# Altium integrated library PCB_Project_para_Eber.IntLib: 4 symbols
Pins are listed as number, name and electrical type; pins without a type are passive.

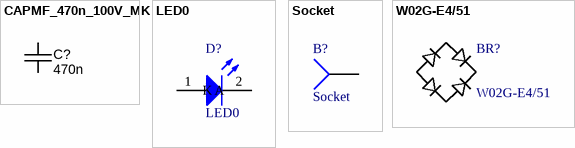
[diagram p0: symbols CAPMF_470n_100V_MK to W02G-E4/51]

## CAPMF_470n_100V_MK
designator C?, comment 470n
Capacitor THD MK Film 470nF 10% 100V; Manufacturer 1: Panasonic - ECG; Manufacturer Part Number 1: ECQ-E1474KF; Material: Metallized Polyester; SCDType: undef; Package / Case: 12.5L x 4.5T x 9.0H x 10.0mm Pitch; Tolerance: ±10%; Ratings: 100V; Supplier 1: Digi-Key; Supplier Part Number 1: EF1474-ND; Value: 470n
footprint CAPR7.62-6.8x2.5 (Capacitor, MF, Thru-Hole, Dipped Radial; Body 6.8 x 2.5 mm (WxT) Pin Spacing 7.62 mm (typ))
pins: 1, 2

## LED0
designator D?
Typical INFRARED GaAs LED; Published: 8-Jun-2000; LatestRevisionDate: 08-Jul-2005; LatestRevisionNote: Mech Layer 1 removed.; PackageReference: LED-0; Publisher: Altium Limited; PackageDescription: LED; 2 Leads
footprint LED-0 (LED; 2 Leads)
simulation model LED0 (Diode)
pins: 1 A, 2 K

## Socket
designator B?
LatestRevisionDate: 17-Jul-2002; LatestRevisionNote: Re-released for DXP Platform.; Publisher: Altium Limited
footprint PIN1 (Connector; Socket)
signal-integrity model Connector
pins: 1

## W02G-E4/51
designator BR?
Diode Rectifier Bridge Single 200V 1.5A 4-Pin Case WOG Bulk; MF: Vishay; Availability: Good; MP: W02G-E4/51; Package: 4-4 Vishay; Price: 0.35 USD; Value: *
footprint DIOB_W02G-E4/51
pins: 1 AC1, 2 +, 3 AC2, 4 -